# Altium footprint library S6LDC115-2002-1-1.PcbLib: 41 footprints (part 1 of 3)
Each footprint in its own frame and in the unit in brackets; x right, y up, seen from the top. Pads: shape width x height; smd on the part's side, far side on the other; paste and mask are expansions set on the pad; w line width, h text height; cw(c..) or ccw(c..) is an arc to the next point about the centre after c.
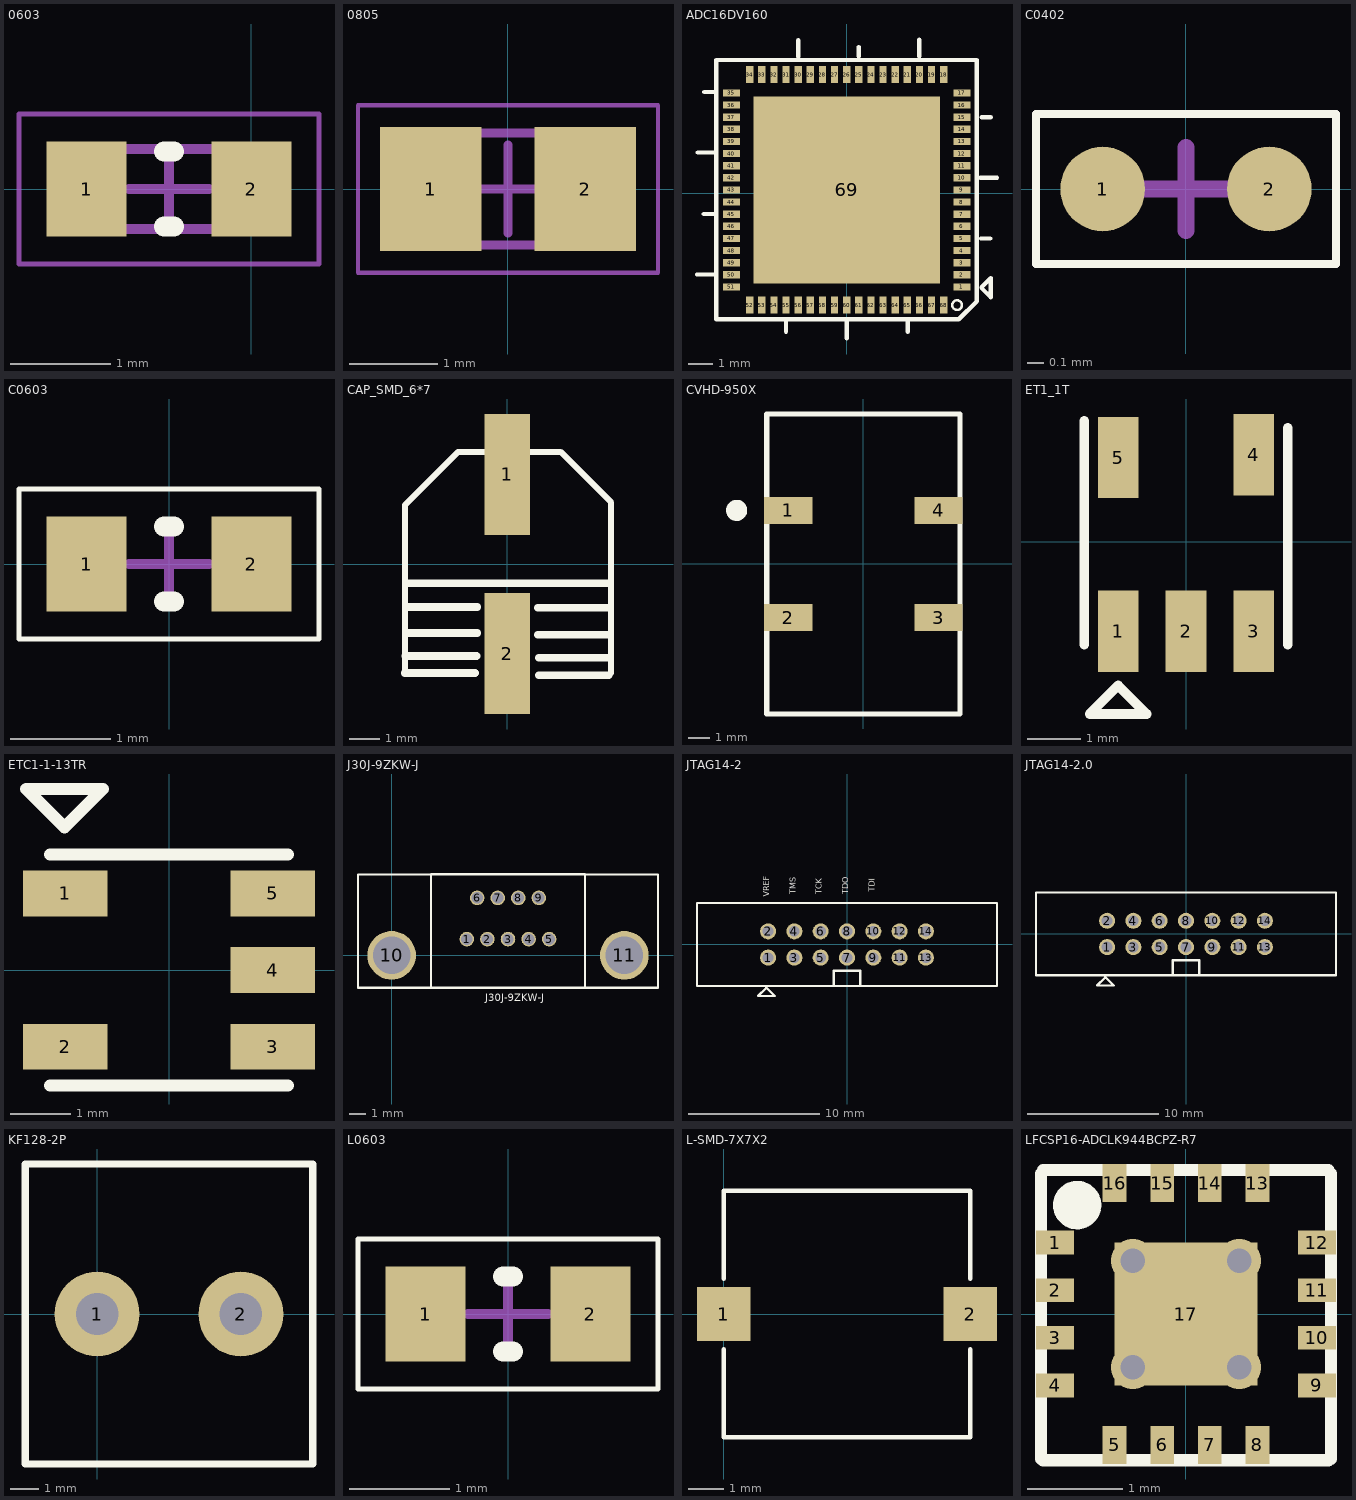
[diagram p0: the footprints below, top view; thin cyan lines are the x and y axes]

## 0603 [mm]
pads (2):
  rect 0.8x0.95 smd: 1(-1.65,0) 2(0,0)
Top Overlay:
  lines w0.2: -0.875,-0.375 -0.775,-0.375 ; -0.875,0.375 -0.775,0.375
Mechanical 13:
  lines w0.1: -1.625,-0.4 -1.625,0.4 -0.025,0.4 -0.025,-0.4 -1.625,-0.4
Mechanical 15:
  lines w0.05: -2.325,-0.75 -2.325,0.75 0.675,0.75 0.675,-0.75 -2.325,-0.75
  lines w0.1: -1.225,0 -0.425,0 ; -0.825,-0.4 -0.825,0.4
3D body: height 0.5, standoff 0, extent -1.325,-0.4 -0.325,0.4
3D body: height 0.5, standoff 0, extent -1.625,-0.4 -1.325,0.4
3D body: height 0.5, standoff 0, extent -0.325,-0.4 -0.025,0.4

## 0805 [mm] "Chip Capacitor, 2-Leads, Body 2.00x1.27mm, IPC Medium Density"
height 1.25
pads (2):
  rect 1.15x1.4 smd: 1(-0.875,0) 2(0.875,0)
Mechanical 13:
  lines w0.1: -1,-0.635 1,-0.635 1,0.635 -1,0.635 -1,-0.635
Mechanical 15:
  lines w0.05: -1.7,-0.95 1.7,-0.95 1.7,0.95 -1.7,0.95 -1.7,-0.95
  lines w0.1: -0.5,0 0.5,0 ; 0,-0.5 0,0.5
3D body: height 1.25, standoff 0, extent 0.55,-0.635 1,0.635
3D body: height 1.25, standoff 0, extent -1,-0.635 -0.55,0.635
3D body: height 1.25, standoff 0, extent -0.55,-0.635 0.55,0.635

## ADC16DV160 [mm]
height 1.2
pads (69):
  rect 0.7x0.3 smd: 1(4.75,-3.873) 2(4.75,-3.373) 3(4.75,-2.873) 4(4.75,-2.373) 5(4.75,-1.873) 6(4.75,-1.373) 7(4.75,-0.873) 8(4.75,-0.373) 9(4.75,0.127) 10(4.75,0.627) 11(4.75,1.127) 12(4.75,1.627) 13(4.75,2.127) 14(4.75,2.627) 15(4.75,3.127) 16(4.75,3.627) 17(4.75,4.127) 35(-4.75,4.127) 36(-4.75,3.627) 37(-4.75,3.127) 38(-4.75,2.627) 39(-4.75,2.127) 40(-4.75,1.627) 41(-4.75,1.127) 42(-4.75,0.627) 43(-4.75,0.127) 44(-4.75,-0.373) 45(-4.75,-0.873) 46(-4.75,-1.373) 47(-4.75,-1.873) 48(-4.75,-2.373) 49(-4.75,-2.873) 50(-4.75,-3.373) 51(-4.75,-3.873)
  rect 0.3x0.7 smd: 18(4,4.877) 19(3.5,4.877) 20(3,4.877) 21(2.5,4.877) 22(2,4.877) 23(1.5,4.877) 24(1,4.877) 25(0.5,4.877) 26(0,4.877) 27(-0.5,4.877) 28(-1,4.877) 29(-1.5,4.877) 30(-2,4.877) 31(-2.5,4.877) 32(-3,4.877) 33(-3.5,4.877) 34(-4,4.877) 52(-4,-4.623) 53(-3.5,-4.623) 54(-3,-4.623) 55(-2.5,-4.623) 56(-2,-4.623) 57(-1.5,-4.623) 58(-1,-4.623) 59(-0.5,-4.623) 60(0,-4.623) 61(0.5,-4.623) 62(1,-4.623) 63(1.5,-4.623) 64(2,-4.623) 65(2.5,-4.623) 66(3,-4.623) 67(3.5,-4.623) 68(4,-4.623)
  rect 7.7x7.7 smd: 69(0,0.127)
Top Overlay:
  circle w0.1: c4.55,-4.623 r0.2
  lines w0.178: -6.172,-3.362 -5.486,-3.362 ; -6.147,1.668 -5.461,1.668 ; -5.893,-0.864 -5.512,-0.864 ; -5.867,4.166 -5.486,4.166 ; -2.5,-5.715 -2.5,-5.334 ; -1.998,5.613 -1.998,6.299 ; -0.002,-5.994 -0.002,-5.309 ; 0.5,5.639 0.5,6.02 ; 2.515,-5.715 2.515,-5.334 ; 2.988,5.639 2.988,6.325 ; 5.512,0.625 6.198,0.625 ; 5.537,-1.873 5.918,-1.873 ; 5.563,-3.912 5.944,-4.293 5.944,-3.505 5.563,-3.886 ; 5.563,3.124 5.944,3.124 ; -5.385,-5.207 4.623,-5.207 5.369,-4.461 5.369,5.486 -5.385,5.486 -5.385,-5.207

## C0402 [mil]
height 11.81
pads (2):
  round 20 smd: 1(-19.68,0) 2(19.68,0)
Top Overlay:
  lines w1.97: -35.43,-17.72 35.43,-17.72 35.43,17.72 -35.43,17.72 -35.43,-17.72
Mechanical 15:
  lines w1.97: -35.43,-17.72 35.43,-17.72 35.43,17.72 -35.43,17.72 -35.43,-17.72
  lines w3.94: -9.84,0 9.84,0 ; 0,-9.84 0,9.84

## C0603 [mm]
height 1.2
pads (2):
  rect 0.8x0.95 smd: 1(-0.825,0) 2(0.825,0)
Top Overlay:
  lines w0.05: -1.5,-0.75 -1.5,0.75 1.5,0.75 1.5,-0.75 -1.5,-0.75
  lines w0.2: -0.05,-0.375 0.05,-0.375 ; -0.05,0.375 0.05,0.375
Mechanical 15:
  lines w0.1: -0.4,0 0.4,0 ; 0,-0.4 0,0.4

## CAP_SMD_6*7 [mm] "贴片电解电容"
pads (2):
  rect 1.5x4 smd: 1(0,2.965) 2(0,-2.965)
Top Overlay:
  lines w0.2: -3.39,-3.608 -3.39,1.947 -1.625,3.712 1.765,3.712 3.44,2.037 3.44,-3.608
  lines w0.254: -3.39,-3.608 -1.068,-3.608 ; -3.378,-3.048 -1.016,-3.048 ; -3.353,-1.422 -0.991,-1.422 ; -3.353,-0.635 3.404,-0.635 ; -3.277,-2.286 -0.991,-2.286 ; 1.016,-2.337 3.404,-2.337 ; 1.016,-1.448 3.404,-1.448 ; 1.041,-3.683 3.365,-3.683 ; 1.041,-3.099 3.415,-3.099
3D body: height 5.4, standoff 0, extent -3.29,-3.51 3.31,3.49

## CVHD-950X [mm]
pads (4):
  rect 2.28x1.27 smd: 1(-3.555,2.54) 2(-3.555,-2.54) 3(3.555,-2.54) 4(3.555,2.54)
Top Overlay:
  circle w0.5: c-6,2.54 r0.25
  lines w0.254: -4.57,-7.1 -4.57,7.1 4.57,7.1 4.57,-7.1 -4.57,-7.1

## ET1_1T [mil]
height 47.24
pads (5):
  rect 30x60 smd: 1(-50,-66) 2(0,-66) 3(50,-66) 4(50,64) 5(-50,61.95)
Top Overlay:
  lines w7: -75,-76 -75,-66 -75,-31 -75,29 -75,89 ; 75,-76 75,84 ; -71,-127 -50,-106 -29,-127 -71,-127

## ETC1-1-13TR [mm]
pads (5):
  rect 1.4x0.76 smd: 1(-1.715,1.27) 2(-1.715,-1.27) 3(1.715,-1.27) 4(1.715,0) 5(1.715,1.27)
Top Overlay:
  lines w0.2: -1.97,-1.915 1.97,-1.915 ; -1.97,1.915 1.97,1.915 ; -2.365,3 -1.73,2.365 -1.095,3 -2.365,3

## J30J-9ZKW-J [mm] "弯式印制板插座"
pads (11):
  round 0.9 hole 0.7: 1(4.635,1) 2(5.905,1) 3(7.175,1) 4(8.445,1) 5(9.715,1) 6(5.27,3.54) 7(6.54,3.54) 8(7.81,3.54) 9(9.08,3.54)
  round 3 hole 2.3: 10(0,0) 11(14.35,0)
Top Overlay:
  lines w0.127: 2.4,4.995 -2.075,4.995 -2.075,-2 2.9,-2 11.925,-2 ; 2.425,-2 2.425,5 11.925,5 11.925,-2 ; 11.925,4.995 16.425,4.995 16.425,-2 11.925,-2
  text "J30J-9ZKW-J" at 5.778,-2.988 h0.76

## JTAG14-2 [mil]
height 39.37
pads (14):
  round 48 hole 32: 1(-236.22,-39.37) 2(-236.22,39.37) 3(-157.48,-39.37) 4(-157.48,39.37) 5(-78.74,-39.37) 6(-78.74,39.37) 7(0,-39.37) 8(0,39.37) 9(78.74,-39.37) 10(78.74,39.37) 11(157.48,-39.37) 12(157.48,39.37) 13(236.22,-39.37) 14(236.22,39.37)
Top Overlay:
  lines w7: -39.37,-124.02 -39.37,-78.74 39.37,-78.74 39.37,-124.02 ; -448.82,-124.02 448.82,-124.02 448.82,124.02 -448.82,124.02 -448.82,-124.02 ; -266.22,-154.37 -241.22,-129.37 -216.22,-154.37 -266.22,-154.37
  text "TMS" at -147.9,149.91 h30
  text "TDI" at 88.32,157.11 h30
  text "TDO" at 9.58,149.81 h30
  text "TCK" at -69.16,150.73 h30
  text "VREF" at -226.64,142.12 h30

## JTAG14-2.0 [mil]
height 39.37
pads (14):
  round 48 hole 32: 1(-236.22,-39.37) 2(-236.22,39.37) 3(-157.48,-39.37) 4(-157.48,39.37) 5(-78.74,-39.37) 6(-78.74,39.37) 7(0,-39.37) 8(0,39.37) 9(78.74,-39.37) 10(78.74,39.37) 11(157.48,-39.37) 12(157.48,39.37) 13(236.22,-39.37) 14(236.22,39.37)
Top Overlay:
  lines w7: -39.37,-124.02 -39.37,-78.74 39.37,-78.74 39.37,-124.02 ; -448.82,-124.02 -448.82,124.02 448.82,124.02 448.82,-124.02 -448.82,-124.02 ; -266.22,-154.37 -216.22,-154.37 -241.22,-129.37 -266.22,-154.37

## KF128-2P [mm]
pads (2):
  round 3 hole 1.5: 1(0,0) 2(5.08,0)
Top Overlay:
  lines w0.254: -2.54,-5.3 -2.54,0 -2.54,5.3 7.62,5.3 7.62,-5.3 -2.54,-5.3

## L0603 [mm]
height 1.2
pads (2):
  rect 0.8x0.95 smd: 1(-0.825,0) 2(0.825,0)
Top Overlay:
  lines w0.05: -1.5,-0.75 -1.5,0.75 1.5,0.75 1.5,-0.75 -1.5,-0.75
  lines w0.2: -0.05,-0.375 0.05,-0.375 ; -0.05,0.375 0.05,0.375
Mechanical 15:
  lines w0.1: -0.4,0 0.4,0 ; 0,-0.4 0,0.4

## L-SMD-7X7X2 [mil]
height 47.24
pads (2):
  rect 60x60 smd: 1(0,0) 2(275.59,0)
Top Overlay:
  lines w5: 0,-39.37 0,-137.8 275.59,-137.8 275.59,-39.37 ; 0,39.37 0,137.8 275.59,137.8 275.59,39.37

## LFCSP16-ADCLK944BCPZ-R7 [mm]
pads (17):
  rect 0.4x0.25 smd: 1(-1.375,0.75) 2(-1.375,0.25) 3(-1.375,-0.25) 4(-1.375,-0.75) 9(1.375,-0.75) 10(1.375,-0.25) 11(1.375,0.25) 12(1.375,0.75)
  rect 0.25x0.4 smd: 5(-0.75,-1.375) 6(-0.25,-1.375) 7(0.25,-1.375) 8(0.75,-1.375) 13(0.75,1.375) 14(0.25,1.375) 15(-0.25,1.375) 16(-0.75,1.375)
  rect 1.5x1.5 smd: 17(0,0)
via -0.559,0.559 diameter 0.457 hole 0.254
via 0.559,0.559 diameter 0.457 hole 0.254
via 0.559,-0.559 diameter 0.457 hole 0.254
via -0.559,-0.559 diameter 0.457 hole 0.254
Top Overlay:
  circle w0.254: c-1.143,1.143 r0.127
  lines w0.127: -1.524,-1.524 -1.524,1.476 ; -1.502,-1.536 1.498,-1.536 ; -1.502,1.512 1.498,1.512 ; 1.524,-1.524 1.524,1.476